# Altium footprint library Varistor.PcbLib: 102 footprints (part 2 of 7)
Each footprint in its own frame and in the unit in brackets; x right, y up, seen from the top. Pads: shape width x height; smd on the part's side, far side on the other; paste and mask are expansions set on the pad; w line width, h text height; cw(c..) or ccw(c..) is an arc to the next point about the centre after c.
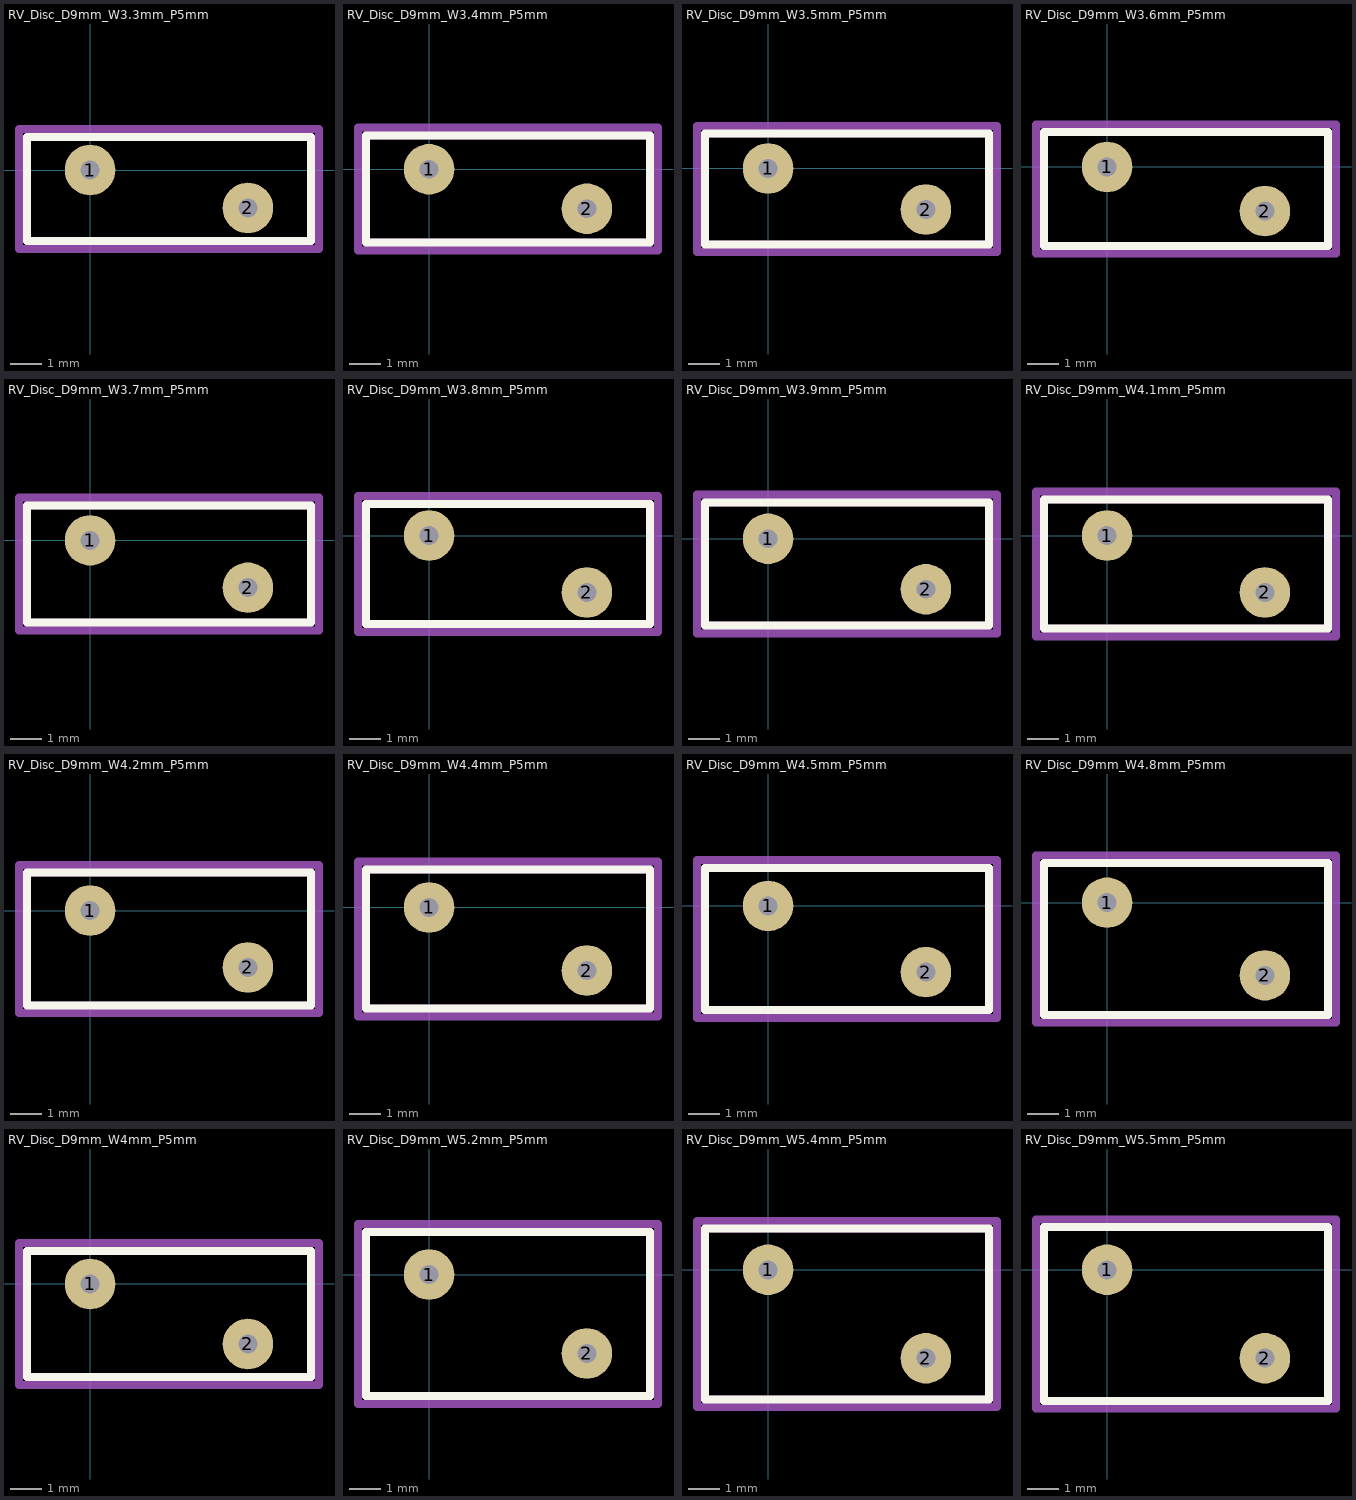
[diagram p1: the footprints below, top view; thin cyan lines are the x and y axes]

## RV_Disc_D9mm_W3.3mm_P5mm [mm]
pads (2):
  round 1.6 hole 0.6: 1(0,0) 2(5,-1.2)
F.SilkS:
  lines w0.254: -2,-2.25 -2,1.05 7,1.05 7,-2.25 -2,-2.25
F.Fab:
  lines w0.254: -2,-2.25 -2,1.05 7,1.05 7,-2.25 -2,-2.25
  text "'.Designator'" at -1.547,-1.44 h1
F.CrtYd:
  lines w0.254: -2.25,-2.5 -2.25,1.3 7.25,1.3 7.25,-2.5 -2.25,-2.5
3D body "RV_Disc_D9mm_W3.3mm_P5mm.step": height 9.03, standoff -3, extent -2,-2.25 7,1.05

## RV_Disc_D9mm_W3.4mm_P5mm [mm]
pads (2):
  round 1.6 hole 0.6: 1(0,0) 2(5,-1.25)
F.SilkS:
  lines w0.254: -2,-2.325 -2,1.075 7,1.075 7,-2.325 -2,-2.325
F.Fab:
  lines w0.254: -2,-2.325 -2,1.075 7,1.075 7,-2.325 -2,-2.325
  text "'.Designator'" at -1.547,-1.465 h1
F.CrtYd:
  lines w0.254: -2.25,-2.58 -2.25,1.33 7.25,1.33 7.25,-2.58 -2.25,-2.58
3D body "RV_Disc_D9mm_W3.4mm_P5mm.step": height 9.03, standoff -3, extent -2,-2.325 7,1.075

## RV_Disc_D9mm_W3.5mm_P5mm [mm]
pads (2):
  round 1.6 hole 0.6: 1(0,0) 2(5,-1.3)
F.SilkS:
  lines w0.254: -2,-2.4 -2,1.1 7,1.1 7,-2.4 -2,-2.4
F.Fab:
  lines w0.254: -2,-2.4 -2,1.1 7,1.1 7,-2.4 -2,-2.4
  text "'.Designator'" at -1.547,-1.49 h1
F.CrtYd:
  lines w0.254: -2.25,-2.65 -2.25,1.35 7.25,1.35 7.25,-2.65 -2.25,-2.65
3D body "RV_Disc_D9mm_W3.5mm_P5mm.step": height 9.03, standoff -3, extent -2,-2.4 7,1.1

## RV_Disc_D9mm_W3.6mm_P5mm [mm]
pads (2):
  round 1.6 hole 0.6: 1(0,0) 2(5,-1.4)
F.SilkS:
  lines w0.254: -2,-2.5 -2,1.1 7,1.1 7,-2.5 -2,-2.5
F.Fab:
  lines w0.254: -2,-2.5 -2,1.1 7,1.1 7,-2.5 -2,-2.5
  text "'.Designator'" at -1.547,-1.54 h1
F.CrtYd:
  lines w0.254: -2.25,-2.75 -2.25,1.35 7.25,1.35 7.25,-2.75 -2.25,-2.75
3D body "RV_Disc_D9mm_W3.6mm_P5mm.step": height 9.03, standoff -3, extent -2,-2.5 7,1.1

## RV_Disc_D9mm_W3.7mm_P5mm [mm]
pads (2):
  round 1.6 hole 0.6: 1(0,0) 2(5,-1.5)
F.SilkS:
  lines w0.254: -2,-2.6 -2,1.1 7,1.1 7,-2.6 -2,-2.6
F.Fab:
  lines w0.254: -2,-2.6 -2,1.1 7,1.1 7,-2.6 -2,-2.6
  text "'.Designator'" at -1.547,-1.59 h1
F.CrtYd:
  lines w0.254: -2.25,-2.85 -2.25,1.35 7.25,1.35 7.25,-2.85 -2.25,-2.85
3D body "RV_Disc_D9mm_W3.7mm_P5mm.step": height 9.03, standoff -3, extent -2,-2.6 7,1.1

## RV_Disc_D9mm_W3.8mm_P5mm [mm]
pads (2):
  round 1.6 hole 0.6: 1(0,0) 2(5,-1.8)
F.SilkS:
  lines w0.254: -2,-2.8 -2,1 7,1 7,-2.8 -2,-2.8
F.Fab:
  lines w0.254: -2,-2.8 -2,1 7,1 7,-2.8 -2,-2.8
  text "'.Designator'" at -1.547,-1.74 h1
F.CrtYd:
  lines w0.254: -2.25,-3.05 -2.25,1.25 7.25,1.25 7.25,-3.05 -2.25,-3.05
3D body "RV_Disc_D9mm_W3.8mm_P5mm.step": height 9.03, standoff -3, extent -2,-2.8 7,1

## RV_Disc_D9mm_W3.9mm_P5mm [mm]
pads (2):
  round 1.6 hole 0.6: 1(0,0) 2(5,-1.6)
F.SilkS:
  lines w0.254: -2,-2.75 -2,1.15 7,1.15 7,-2.75 -2,-2.75
F.Fab:
  lines w0.254: -2,-2.75 -2,1.15 7,1.15 7,-2.75 -2,-2.75
  text "'.Designator'" at -1.547,-1.64 h1
F.CrtYd:
  lines w0.254: -2.25,-3 -2.25,1.4 7.25,1.4 7.25,-3 -2.25,-3
3D body "RV_Disc_D9mm_W3.9mm_P5mm.step": height 9.03, standoff -3, extent -2,-2.75 7,1.15

## RV_Disc_D9mm_W4.1mm_P5mm [mm]
pads (2):
  round 1.6 hole 0.6: 1(0,0) 2(5,-1.8)
F.SilkS:
  lines w0.254: -2,-2.95 -2,1.15 7,1.15 7,-2.95 -2,-2.95
F.Fab:
  lines w0.254: -2,-2.95 -2,1.15 7,1.15 7,-2.95 -2,-2.95
  text "'.Designator'" at -1.547,-1.74 h1
F.CrtYd:
  lines w0.254: -2.25,-3.2 -2.25,1.4 7.25,1.4 7.25,-3.2 -2.25,-3.2
3D body "RV_Disc_D9mm_W4.1mm_P5mm.step": height 9.03, standoff -3, extent -2,-2.95 7,1.15

## RV_Disc_D9mm_W4.2mm_P5mm [mm]
pads (2):
  round 1.6 hole 0.6: 1(0,0) 2(5,-1.8)
F.SilkS:
  lines w0.254: -2,-3 -2,1.2 7,1.2 7,-3 -2,-3
F.Fab:
  lines w0.254: -2,-3 -2,1.2 7,1.2 7,-3 -2,-3
  text "'.Designator'" at -1.547,-1.74 h1
F.CrtYd:
  lines w0.254: -2.25,-3.25 -2.25,1.45 7.25,1.45 7.25,-3.25 -2.25,-3.25
3D body "RV_Disc_D9mm_W4.2mm_P5mm.step": height 9.03, standoff -3, extent -2,-3 7,1.2

## RV_Disc_D9mm_W4.4mm_P5mm [mm]
pads (2):
  round 1.6 hole 0.6: 1(0,0) 2(5,-2)
F.SilkS:
  lines w0.254: -2,-3.2 -2,1.2 7,1.2 7,-3.2 -2,-3.2
F.Fab:
  lines w0.254: -2,-3.2 -2,1.2 7,1.2 7,-3.2 -2,-3.2
  text "'.Designator'" at -1.547,-1.84 h1
F.CrtYd:
  lines w0.254: -2.25,-3.45 -2.25,1.45 7.25,1.45 7.25,-3.45 -2.25,-3.45
3D body "RV_Disc_D9mm_W4.4mm_P5mm.step": height 9.03, standoff -3, extent -2,-3.2 7,1.2

## RV_Disc_D9mm_W4.5mm_P5mm [mm]
pads (2):
  round 1.6 hole 0.6: 1(0,0) 2(5,-2.1)
F.SilkS:
  lines w0.254: -2,-3.3 -2,1.2 7,1.2 7,-3.3 -2,-3.3
F.Fab:
  lines w0.254: -2,-3.3 -2,1.2 7,1.2 7,-3.3 -2,-3.3
  text "'.Designator'" at -1.547,-1.89 h1
F.CrtYd:
  lines w0.254: -2.25,-3.55 -2.25,1.45 7.25,1.45 7.25,-3.55 -2.25,-3.55
3D body "RV_Disc_D9mm_W4.5mm_P5mm.step": height 9.03, standoff -3, extent -2,-3.3 7,1.2

## RV_Disc_D9mm_W4.8mm_P5mm [mm]
pads (2):
  round 1.6 hole 0.6: 1(0,0) 2(5,-2.3)
F.SilkS:
  lines w0.254: -2,-3.55 -2,1.25 7,1.25 7,-3.55 -2,-3.55
F.Fab:
  lines w0.254: -2,-3.55 -2,1.25 7,1.25 7,-3.55 -2,-3.55
  text "'.Designator'" at -1.547,-1.99 h1
F.CrtYd:
  lines w0.254: -2.25,-3.8 -2.25,1.5 7.25,1.5 7.25,-3.8 -2.25,-3.8
3D body "RV_Disc_D9mm_W4.8mm_P5mm.step": height 9.03, standoff -3, extent -2,-3.55 7,1.25

## RV_Disc_D9mm_W4mm_P5mm [mm]
pads (2):
  round 1.6 hole 0.6: 1(0,0) 2(5,-1.9)
F.SilkS:
  lines w0.254: -2,-2.95 -2,1.05 7,1.05 7,-2.95 -2,-2.95
F.Fab:
  lines w0.254: -2,-2.95 -2,1.05 7,1.05 7,-2.95 -2,-2.95
  text "'.Designator'" at -1.547,-1.79 h1
F.CrtYd:
  lines w0.254: -2.25,-3.2 -2.25,1.3 7.25,1.3 7.25,-3.2 -2.25,-3.2
3D body "RV_Disc_D9mm_W4mm_P5mm.step": height 9.03, standoff -3, extent -2,-2.95 7,1.05

## RV_Disc_D9mm_W5.2mm_P5mm [mm]
pads (2):
  round 1.6 hole 0.6: 1(0,0) 2(5,-2.5)
F.SilkS:
  lines w0.254: -2,-3.85 -2,1.35 7,1.35 7,-3.85 -2,-3.85
F.Fab:
  lines w0.254: -2,-3.85 -2,1.35 7,1.35 7,-3.85 -2,-3.85
  text "'.Designator'" at -1.547,-2.09 h1
F.CrtYd:
  lines w0.254: -2.25,-4.1 -2.25,1.6 7.25,1.6 7.25,-4.1 -2.25,-4.1
3D body "RV_Disc_D9mm_W5.2mm_P5mm.step": height 9.03, standoff -3, extent -2,-3.85 7,1.35

## RV_Disc_D9mm_W5.4mm_P5mm [mm]
pads (2):
  round 1.6 hole 0.6: 1(0,0) 2(5,-2.8)
F.SilkS:
  lines w0.254: -2,-4.1 -2,1.3 7,1.3 7,-4.1 -2,-4.1
F.Fab:
  lines w0.254: -2,-4.1 -2,1.3 7,1.3 7,-4.1 -2,-4.1
  text "'.Designator'" at -1.547,-2.24 h1
F.CrtYd:
  lines w0.254: -2.25,-4.35 -2.25,1.55 7.25,1.55 7.25,-4.35 -2.25,-4.35
3D body "RV_Disc_D9mm_W5.4mm_P5mm.step": height 9.03, standoff -3, extent -2,-4.1 7,1.3

## RV_Disc_D9mm_W5.5mm_P5mm [mm]
pads (2):
  round 1.6 hole 0.6: 1(0,0) 2(5,-2.8)
F.SilkS:
  lines w0.254: -2,-4.15 -2,1.35 7,1.35 7,-4.15 -2,-4.15
F.Fab:
  lines w0.254: -2,-4.15 -2,1.35 7,1.35 7,-4.15 -2,-4.15
  text "'.Designator'" at -1.547,-2.24 h1
F.CrtYd:
  lines w0.254: -2.25,-4.4 -2.25,1.6 7.25,1.6 7.25,-4.4 -2.25,-4.4
3D body "RV_Disc_D9mm_W5.5mm_P5mm.step": height 9.03, standoff -3, extent -2,-4.15 7,1.35